# Altium integrated library ECA1VM221.IntLib: 1 symbol
Pins are listed as number, name and electrical type; pins without a type are passive.

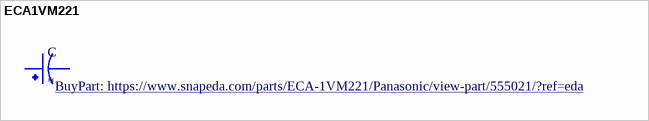
[diagram p0: symbol ECA1VM221]

## ECA1VM221
designator C
220ÂµF 35V Aluminum Electrolytic Capacitors Radial, Can 2000 Hrs @ 85Â°C; MP: ECA-1VM221; MF: Panasonic; Value: *; Package: Radial Panasonic; Availability: Good; DigiKey-Purchase-URL: https://snapeda.com/shop?store=DigiKey&id=555021; Price: None; SnapEDA_Link: https://www.snapeda.com/parts/ECA-1VM221/Panasonic/view-part/555021/?ref=snap; Mouser-Purchase-URL: https://snapeda.com/shop?store=Mouser&id=555021; Arrow_Electronics-Purchase-URL: https://snapeda.com/shop?store=Arrow+Electronics&id=555021; BuyPart: https://www.snapeda.com/parts/ECA-1VM221/Panasonic/view-part/555021/?ref=eda
footprint CAPPRD350W60D850H1250
pins: 1, 2